# Altium schematic symbol library UCC27212DPRR.SchLib: 1 symbol
Pins are listed as number, name and electrical type; pins without a type are passive.

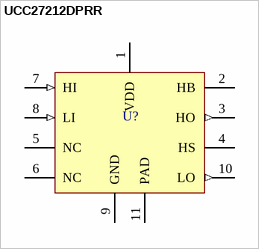
[diagram p0: symbol UCC27212DPRR]

## UCC27212DPRR
designator U?
4-A, 120-V half bridge gate driver with 5-V UVLO and negative voltage handling
pins: 1 VDD (power), 2 HB, 3 HO (out), 4 HS, 5 NC, 6 NC, 7 HI (in), 8 LI (in), 9 GND, 10 LO (out), 11 PAD